# Altium schematic symbol library QTLP650.SchLib: 1 symbol
Pins are listed as number, name and electrical type; pins without a type are passive.

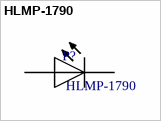
[diagram p0: symbol HLMP-1790]

## HLMP-1790
designator P?
HLMP-1790 2V 2mA; PN: MAG 355.161; IsStocked: 1; Supplier 1: ETML; Supplier Part Number 1: MAG 355.161; Supplier Price 1: 0.00
footprint FP-6_544-5255_01-4-MFG
pins: A, K